# EAGLE library part GRPB112VWQP (library con-sullins-grpb)
HEADER
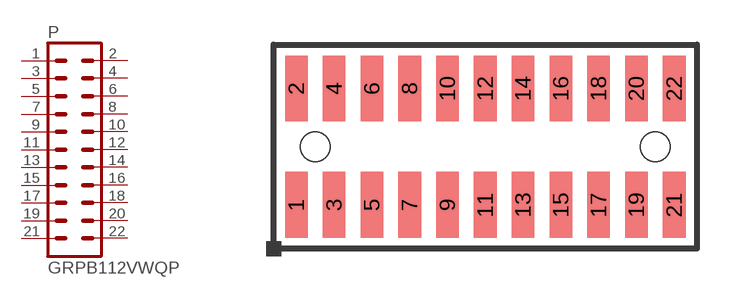
[diagram p8: symbol with the pads of GRPB112VWQP; footprint GRPB112VWQP]

Designator prefix P

## GRPB112VWQP  [GRPB112VWQP]
1  1  pas
2  2  pas
3  3  pas
4  4  pas
5  5  pas
6  6  pas
7  7  pas
8  8  pas
9  9  pas
10  10  pas
11  11  pas
12  12  pas
13  13  pas
14  14  pas
15  15  pas
16  16  pas
17  17  pas
18  18  pas
19  19  pas
20  20  pas
21  21  pas
22  22  pas

## Footprint GRPB112VWQP (pad centres in mm)
HEADER
smd 0.762 x 2.21: 1 -6.35,-1.956; 2 -6.35,1.956; 3 -5.08,-1.956; 4 -5.08,1.956; 5 -3.81,-1.956; 6 -3.81,1.956; 7 -2.54,-1.956; 8 -2.54,1.956; 9 -1.27,-1.956; 10 -1.27,1.956; 11 0,-1.956; 12 0,1.956; 13 1.27,-1.956; 14 1.27,1.956; 15 2.54,-1.956; 16 2.54,1.956; 17 3.81,-1.956; 18 3.81,1.956; 19 5.08,-1.956; 20 5.08,1.956; 21 6.35,-1.956; 22 6.35,1.956
hole 1 at -5.715,0
hole 1 at 5.715,0